# Altium footprint library CTB03082.PcbLib: 1 footprints
Each footprint in its own frame and in the unit in brackets; x right, y up, seen from the top. Pads: shape width x height; smd on the part's side, far side on the other; paste and mask are expansions set on the pad; w line width, h text height; cw(c..) or ccw(c..) is an arc to the next point about the centre after c.
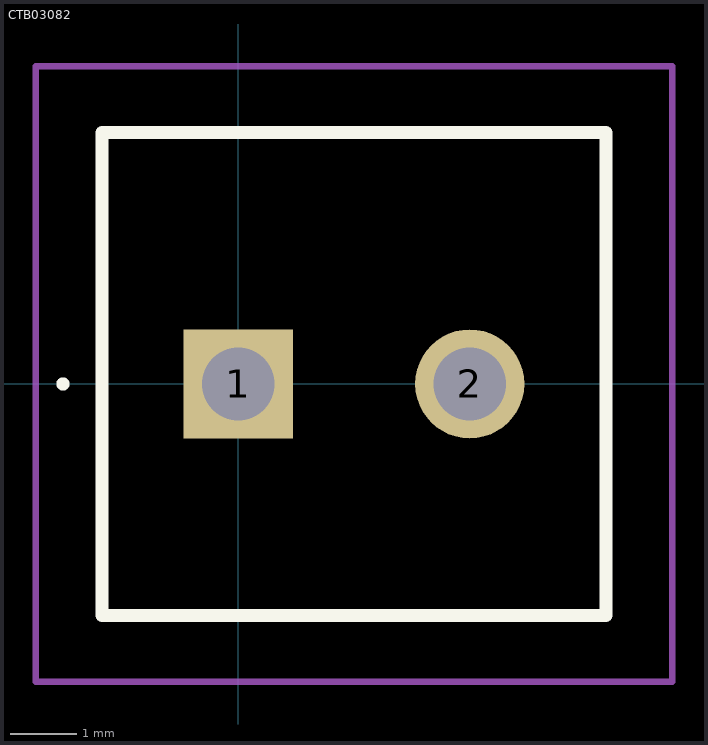
[diagram p0: the footprint, top view; thin cyan lines are the x and y axes]

## CTB03082 [mm]
pads (2):
  rect 1.65x1.65 hole 1.1: 1(0,0)
  round 1.65 hole 1.1: 2(3.5,0)
Top Overlay:
  lines w0.1: -2.7,0 cw(c-2.65,0) -2.6,0 ; -2.7,0 -2.7,0 ; -2.7,0 ccw(c-2.65,0) -2.6,0 ; -2.6,0 -2.6,0
  lines w0.2: -2.06,-3.5 5.56,-3.5 5.56,3.8 -2.06,3.8 -2.06,-3.5
Mechanical 15:
  lines w0.1: -2.06,-3.5 5.56,-3.5 5.56,3.8 -2.06,3.8 -2.06,-3.5
Mechanical 20:
  lines w0.1: -3.06,-4.5 6.56,-4.5 6.56,4.8 -3.06,4.8 -3.06,-4.5